# Altium footprint library Control_Board_Model_C201.PcbLib: 94 footprints (part 5 of 6)
Each footprint in its own frame and in the unit in brackets; x right, y up, seen from the top. Pads: shape width x height; smd on the part's side, far side on the other; paste and mask are expansions set on the pad; w line width, h text height; cw(c..) or ccw(c..) is an arc to the next point about the centre after c.
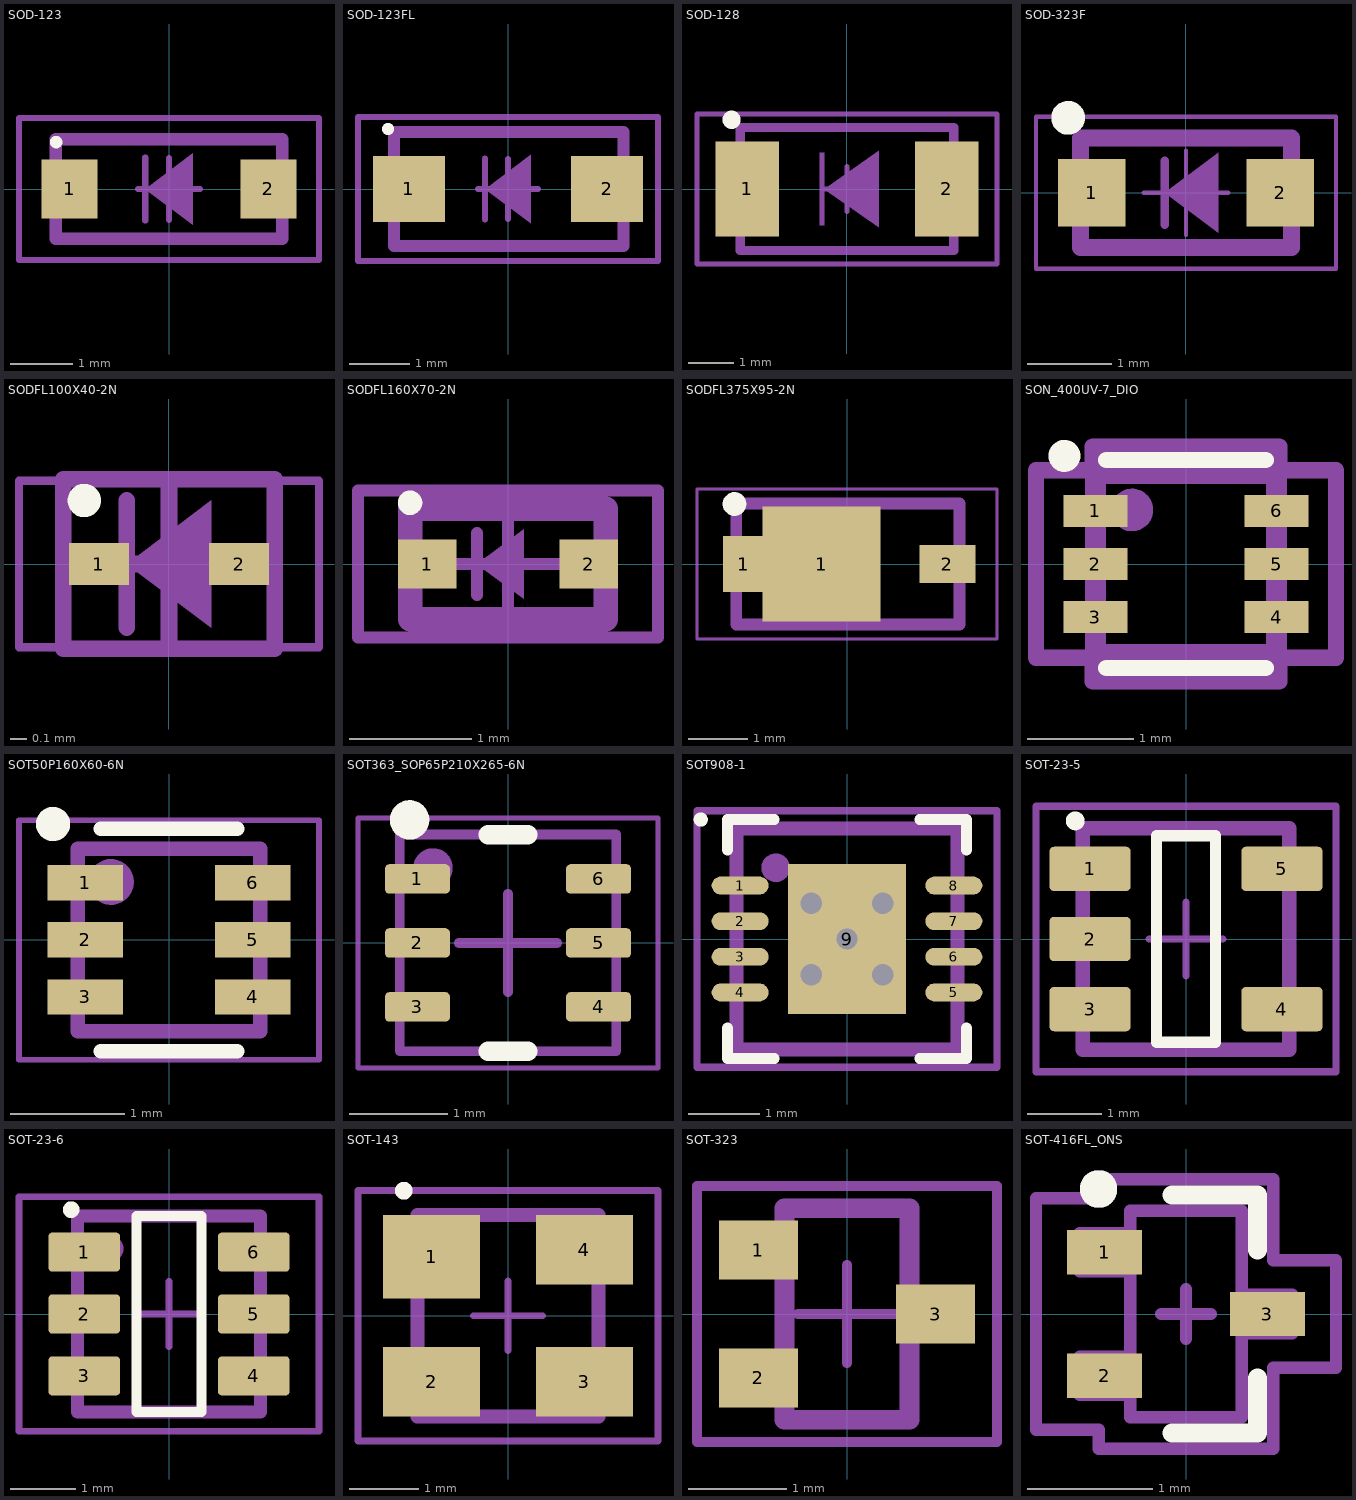
[diagram p4: the footprints below, top view; thin cyan lines are the x and y axes]

## SOD-123 [mm]
height 1.35
pads (2):
  rect 0.9x0.95 smd: 1(-1.6,0) 2(1.6,0)
Top Overlay:
  circle w0.1: c-1.816,0.754 r0.05
Mechanical 14:
  region: -0.381,0 0.381,0.571 0.381,-0.572
  lines w0.1: -0.381,-0.508 -0.381,0.508
  lines w0.2: -1.825,-0.8 1.825,-0.8 1.825,0.8 -1.825,0.8 -1.825,-0.8
  text "'.Designator'" at -1.016,1.105 h0.5
Mechanical 15:
  lines w0.1: -0.5,0 0.5,0 ; 0,-0.5 0,0.5 ; -2.413,-1.143 2.413,-1.143 2.413,1.143 -2.413,1.143 -2.413,-1.143
3D body "SOD-123.STEP": height 1.15, standoff 0, extent -1.825,-0.775 1.825,0.775

## SOD-123FL [mm]
height 1.35
pads (2):
  rect 1.2x1.1 smd: 1(-1.651,0) 2(1.651,0)
Top Overlay:
  circle w0.1: c-2,1 r0.05
Mechanical 14:
  region: -0.381,0 0.381,0.571 0.381,-0.572
  lines w0.1: -0.381,-0.508 -0.381,0.508
  lines w0.2: -1.9,-0.95 1.925,-0.95 1.925,0.95 -1.9,0.95 -1.9,-0.95
  text "'.Designator'" at -1.2,1.3 h0.5
Mechanical 15:
  lines w0.1: -0.5,0 0.5,0 ; 0,-0.5 0,0.5 ; -2.5,-1.2 2.5,-1.2 2.5,1.2 -2.5,1.2 -2.5,-1.2
3D body "SOD-123FL.STEP": height 1.35, standoff 0, extent -1.925,-0.95 1.925,0.95

## SOD-128 [mm] "SOD-128"
height 1
pads (2):
  rect 1.4x2.1 smd: 1(-2.2,0) 2(2.2,0)
Top Overlay:
  circle w0.2: c-2.54,1.524 r0.1
Mechanical 14:
  rectangle: -0.6,-0.8 -0.5,0.8
  region: -0.5,0 0.7,0.84 0.7,-0.84
  lines w0.2: -2.35,-1.35 2.35,-1.35 2.35,1.35 -2.35,1.35 -2.35,-1.35
  text "'.Designator'" at -1.016,1.905 h0.5
Mechanical 15:
  lines w0.1: -0.5,0 0.5,0 ; 0,-0.5 0,0.5 ; -3.302,-1.651 3.302,-1.651 3.302,1.651 -3.302,1.651 -3.302,-1.651
3D body "SOD-128.step": height 1, standoff 0, extent -2.35,-1.35 2.35,1.35

## SOD-323F [mm]
height 1.062
pads (2):
  rect 0.8x0.8 smd: 1(-1.115,0) 2(1.115,0)
Top Overlay:
  circle w0.2: c-1.397,0.889 r0.1
Mechanical 14:
  region: -0.254,0 0.381,0.476 0.381,-0.476
  lines w0.1: -0.254,-0.381 -0.254,0.381
  lines w0.2: -1.25,-0.65 -1.25,0.65 1.25,0.65 1.25,-0.65 -1.25,-0.65
  text "'.Designator'" at -1.397,1.016 h0.5
Mechanical 15:
  lines w0.05: -0.5,0 0.5,0 ; 0,-0.5 0,0.5 ; -1.778,-0.9 1.778,-0.9 1.778,0.9 -1.778,0.9 -1.778,-0.9
3D body "SOD-323F.STEP": height 1, standoff 0, extent -1.25,-0.65 1.25,0.65

## SODFL100X40-2N [mm] "SODFL, 2-Leads, Body 0.60x1.00mm, IPC Medium Density"
height 0.4
pads (2):
  rect 0.36x0.25 smd: 1(-0.42,0) 2(0.42,0)
Top Overlay:
  circle w0.1: c-0.508,0.381 r0.05
Mechanical 14:
  region: -0.254,0 0.254,0.381 0.254,-0.381
  lines w0.1: -0.254,-0.381 -0.254,0.381 ; -0.635,-0.508 0.635,-0.508 0.635,0.508 -0.635,0.508 -0.635,-0.508
  text "'.Designator'" at -0.635,0.762 h0.5
Mechanical 15:
  lines w0.05: -0.9,-0.5 0.9,-0.5 0.9,0.5 -0.9,0.5 -0.9,-0.5
  lines w0.1: -0.5,0 0.5,0 ; 0,-0.5 0,0.5
3D body "SODFL100X40-2N.step": height 0.4, standoff 0, extent -0.5,-0.325 0.5,0.325

## SODFL160X70-2N [mm] "SODFL, 2-Leads, Body 0.80x1.60mm, IPC Medium Density"
height 0.7
pads (2):
  rect 0.48x0.4 smd: 1(-0.66,0) 2(0.66,0)
Top Overlay:
  circle w0.1: c-0.8,0.5 r0.05
Mechanical 14:
  region: -0.254,0 0.127,0.286 0.127,-0.286
  lines w0.1: -0.254,-0.254 -0.254,0.254
  lines w0.2: -0.8,-0.45 -0.8,0.45 0.8,0.45 0.8,-0.45 -0.8,-0.45
  text "'.Designator'" at -0.635,0.762 h0.5
Mechanical 15:
  lines w0.1: -0.5,0 0.5,0 ; 0,-0.5 0,0.5 ; -1.225,-0.6 -1.225,0.6 1.225,0.6 1.225,-0.6 -1.225,-0.6
3D body "SODFL160X70-2N.step": height 0.7, standoff 0, extent -0.8,-0.45 0.8,0.45

## SODFL375X95-2N [mm] "SODFL, 2-Leads, Body 1.90x3.75mm, IPC Medium Density"
height 0.95
pads (3):
  rect 0.7x0.95 smd: 1(-1.75,0)
  rect 2x1.95 smd: 1(-0.432,0)
  rect 0.95x0.65 smd: 2(1.7,0)
Top Overlay:
  circle w0.2: c-1.905,1.016 r0.1
Mechanical 14:
  region: -0.381,0 0.381,0.571 0.381,-0.572
  lines w0.1: -0.381,-0.508 -0.381,0.508
  lines w0.2: -1.875,-1.025 -1.875,1.025 1.905,1.025 1.905,-1.025 -1.875,-1.025
  text "'.Designator'" at -1.016,1.397 h0.5
Mechanical 15:
  lines w0.05: -2.54,-1.27 -2.54,1.27 2.54,1.27 2.54,-1.27 -2.54,-1.27
  lines w0.1: -0.5,0 0.5,0 ; 0,-0.5 0,0.5
3D body "SODFL375X95-2N.step": height 0.95, standoff 0, extent -1.875,-1.025 1.875,1.025

## SON_400UV-7_DIO [mm]
pads (6):
  rect 0.6x0.3 smd: 1(-0.851,0.5) 2(-0.851,0) 3(-0.851,-0.5) 4(0.851,-0.5) 5(0.851,0) 6(0.851,0.5)
Top Overlay:
  circle w0.2: c-1.143,1.016 r0.05
  lines w0.152: -0.749,-0.978 0.749,-0.978 ; -0.749,0.978 0.749,0.978
Mechanical 14:
  circle w0.2: c-0.508,0.508 r0.1
  lines w0.2: -0.851,-0.851 0.851,-0.851 0.851,0.851 -0.851,0.851 -0.851,-0.851
  text "'.Designator'" at -0.508,-0.254 h0.5
Mechanical 15:
  lines w0.152: -1.41,-0.881 -0.876,-0.881 -0.876,-1.105 0.876,-1.105 0.876,-0.881 1.41,-0.881 1.41,0.881 0.876,0.881 0.876,1.105 -0.876,1.105 -0.876,0.881 -1.41,0.881 -1.41,-0.881
3D body "SON_400UV-7_DIO.step": height 0.61, standoff 0, extent -0.851,-0.851 0.851,0.851

## SOT50P160X60-6N [mm]
pads (6):
  rect 0.66x0.31 smd: 1(-0.735,0.5) 2(-0.735,0) 3(-0.735,-0.5) 4(0.735,-0.5) 5(0.735,0) 6(0.735,0.5)
Top Overlay:
  circle w0.2: c-1.016,1.016 r0.05
  lines w0.127: -0.6,-0.975 0.6,-0.975 ; -0.6,0.975 0.6,0.975
Mechanical 14:
  circle w0.2: c-0.508,0.508 r0.1
  lines w0.127: -0.8,-0.8 0.8,-0.8 0.8,0.8 -0.8,0.8 -0.8,-0.8
  text "'.Designator'" at -0.381,-0.254 h0.5
Mechanical 15:
  lines w0.05: -1.315,-1.05 1.315,-1.05 1.315,1.05 -1.315,1.05 -1.315,-1.05
3D body "DRL0006A.stp": height 0.6, standoff 0, extent -0.8,-0.8 0.8,0.8

## SOT363_SOP65P210X265-6N [mm] "SOP, 6-Leads, Body 2.00x1.25mm, Pitch 0.65mm, IPC Medium Density"
height 2.65
pads (6):
  rrect30% 0.66x0.3 smd mask+0.05: 1(-0.92,0.65) 2(-0.92,0) 3(-0.92,-0.65) 4(0.92,-0.65) 5(0.92,0) 6(0.92,0.65)
Top Overlay:
  circle w0.2: c-1,1.25 r0.1
  lines w0.2: -0.2,-1.1 0.2,-1.1 ; -0.2,1.1 0.2,1.1
Mechanical 14:
  circle w0.2: c-0.762,0.762 r0.1
  lines w0.1: -1.1,-1.1 -1.1,1.1 1.1,1.1 1.1,-1.1 -1.1,-1.1
  text "'.Designator'" at -0.508,-0.254 h0.5
Mechanical 15:
  lines w0.05: -1.524,-1.27 -1.524,1.27 1.524,1.27 1.524,-1.27 -1.524,-1.27
  lines w0.1: -0.5,0 0.5,0 ; 0,-0.5 0,0.5
3D body "SOT-363.STEP": height 1.1, standoff 0, extent -1.1,-1.1 1.1,1.1

## SOT908-1 [mm]
pads (9):
  rrect100% 0.8x0.25 smd mask+0.05: 1(-1.5,0.75) 2(-1.5,0.25) 3(-1.5,-0.25) 4(-1.5,-0.75) 5(1.5,-0.75) 6(1.5,-0.25) 7(1.5,0.25) 8(1.5,0.75)
  rect 1.65x2.1 smd mask+0.05: 9(0,0)
via 0,0 diameter 0.605 hole 0.3
via -0.5,0.5 diameter 0.605 hole 0.3
via 0.5,0.5 diameter 0.605 hole 0.3
via 0.5,-0.5 diameter 0.605 hole 0.3
via -0.5,-0.5 diameter 0.605 hole 0.3
Top Overlay:
  circle w0.1: c-2.052,1.676 r0.05
  lines w0.152: -1.676,-1.251 -1.676,-1.676 -1.021,-1.676 ; -1.676,1.251 -1.676,1.676 -1.021,1.676 ; 1.021,-1.676 1.676,-1.676 1.676,-1.251 ; 1.021,1.676 1.676,1.676 1.676,1.251
Mechanical 14:
  circle w0.2: c-1,1 r0.1
  lines w0.2: -1.55,-1.55 1.55,-1.55 1.55,1.55 -1.55,1.55 -1.55,-1.55
  text "'.Designator'" at -0.635,-0.254 h0.5
Mechanical 15:
  lines w0.1: -0.5,0 0.5,0 ; 0,-0.5 0,0.5 ; -2.105,-1.8 2.105,-1.8 2.105,1.8 -2.105,1.8 -2.105,-1.8
3D body "SON50P300X100_HS-9N.step": height 1, standoff 0, extent -1.551,-1.55 1.551,1.55

## SOT-23-5 [mm]
height 1
pads (5):
  rrect20% 1.1x0.6 smd mask+0.05: 1(-1.3,0.95) 2(-1.3,0) 3(-1.3,-0.95) 4(1.3,-0.95) 5(1.3,0.95)
Top Overlay:
  circle w0.152: c-1.5,1.6 r0.051
  lines w0.152: -0.4,-1.4 -0.4,1.4 0.4,1.4 0.4,-1.4 -0.4,-1.4
Mechanical 14:
  circle w0.2: c-1,1 r0.1
  lines w0.2: -1.4,-1.5 -1.4,1.5 1.4,1.5 1.4,-1.5 -1.4,-1.5
  text ".Designator" at -1,-0.2 h0.5
Mechanical 15:
  lines w0.1: -0.5,0 0.5,0 ; 0,-0.5 0,0.5 ; -2.032,-1.8 2.032,-1.8 2.032,1.8 -2.032,1.8 -2.032,-1.8
3D body "SOT-23-5.STEP": height 1.25, standoff 0, extent -1.4,-1.5 1.4,1.5

## SOT-23-6 [mm]
height 1
pads (6):
  rrect20% 1.1x0.6 smd mask+0.05: 1(-1.3,0.95) 2(-1.3,0) 3(-1.3,-0.95) 4(1.3,-0.95) 5(1.3,0) 6(1.3,0.95)
Top Overlay:
  circle w0.152: c-1.5,1.6 r0.051
  lines w0.152: -0.5,-1.5 -0.5,1.5 0.5,1.5 0.5,-1.5 -0.5,-1.5
Mechanical 14:
  circle w0.2: c-0.9,1 r0.1
  lines w0.2: -1.4,-1.5 -1.4,1.5 1.4,1.5 1.4,-1.5 -1.4,-1.5
  text ".Designator" at -1,-0.2 h0.5
Mechanical 15:
  lines w0.1: -0.5,0 0.5,0 ; 0,-0.5 0,0.5 ; -2.3,-1.8 2.3,-1.8 2.3,1.8 -2.3,1.8 -2.3,-1.8
3D body "SOT-23-6 (DBV).STEP": height 1.25, standoff 0, extent -1.4,-1.5 1.4,1.5

## SOT-143 [mm]
height 1.22
pads (4):
  rect 1.4x1.2 smd: 1(-1.1,0.85)
  rect 1.4x1 smd: 2(-1.1,-0.95) 3(1.1,-0.95) 4(1.1,0.95)
Top Overlay:
  circle w0.152: c-1.5,1.8 r0.051
Mechanical 14:
  circle w0.2: c-0.8,1 r0.1
  lines w0.2: -1.3,-1.448 -1.3,1.448 1.3,1.448 1.3,-1.448 -1.3,-1.448
  text "'.Designator'" at -0.8,-0.3 h0.5
Mechanical 15:
  lines w0.1: -0.5,0 0.5,0 ; 0,-0.5 0,0.5 ; -2.159,-1.8 -2.159,1.8 2.159,1.8 2.159,-1.8 -2.159,-1.8
3D body "SOT-143.STEP": height 1.17, standoff 0, extent -1.32,-1.45 1.32,1.45

## SOT-323 [mm]
height 1
pads (3):
  rect 0.8x0.6 smd: 1(-0.9,0.65) 2(-0.9,-0.65) 3(0.9,0)
Mechanical 14:
  circle w0.2: c-1.016,0.635 r0.05
  lines w0.2: -0.635,-1.075 -0.635,1.075 0.635,1.075 0.635,-1.075 -0.635,-1.075
  text "'.Designator'" at -0.7,1.4 h0.5
Mechanical 15:
  lines w0.1: -0.5,0 0.5,0 ; 0,-0.5 0,0.5 ; -1.524,-1.3 1.524,-1.3 1.524,1.3 -1.524,1.3 -1.524,-1.3
3D body "SOT-323.STEP": height 1.05, standoff 0, extent -1.05,-1.075 1.05,1.075

## SOT-416FL_ONS [mm]
pads (3):
  rect 0.6x0.356 smd: 1(-0.65,0.495) 2(-0.65,-0.495) 3(0.65,0)
Top Overlay:
  circle w0.2: c-0.7,1 r0.05
  lines w0.152: -0.111,-0.953 0.572,-0.953 0.572,-0.511 ; -0.111,0.953 0.572,0.953 0.572,0.511
Mechanical 14:
  circle w0.2: c-0.7,1 r0.05
  lines w0.1: -0.851,-0.648 -0.445,-0.648 -0.445,-0.343 -0.851,-0.343 -0.851,-0.648 ; -0.851,0.343 -0.445,0.343 -0.445,0.648 -0.851,0.648 -0.851,0.343 ; -0.445,-0.826 0.445,-0.826 0.445,0.826 -0.445,0.826 -0.445,-0.826 ; 0.445,-0.152 0.851,-0.152 0.851,0.152 0.445,0.152 0.445,-0.152
  text "'.Designator'" at 0.3,-0.7 h0.5
Mechanical 15:
  lines w0.1: -0.2,0 0.2,0 ; 0,-0.2 0,0.2 ; -1.2,-0.927 -1.2,0.927 -0.699,0.927 -0.699,1.079 0.699,1.079 0.699,0.432 1.2,0.432 1.2,-0.432 0.699,-0.432 0.699,-1.079 -0.699,-1.079 -0.699,-0.927 -1.2,-0.927
3D body "SOT-416FL_ONS.step": height 0.89, standoff 0, extent -0.851,-0.826 0.851,0.826